# EAGLE library part GLOBAL_NUF2221W1 (library mainboard)
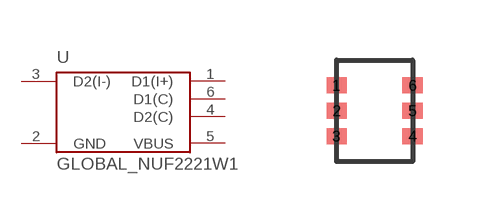
[diagram p10: symbol with the pads of GLOBAL_NUF2221W1; footprint GLOBAL_NUF2221W1]

Designator prefix -

## GLOBAL_NUF2221W1  [GLOBAL_NUF2221W1]
1  D1(I+)
2  GND
3  D2(I-)
4  D2(C)
5  VBUS
6  D1(C)

## Footprint GLOBAL_NUF2221W1 (pad centres in mm)
smd 0.5 x 0.399: 1 0,0.635; 2 0,0; 3 0,-0.635; 4 1.9,-0.635; 5 1.9,0; 6 1.9,0.635